# EAGLE library part DS1307 (library Komputronika)
I2C-Bus CLOCK/CALENDAR
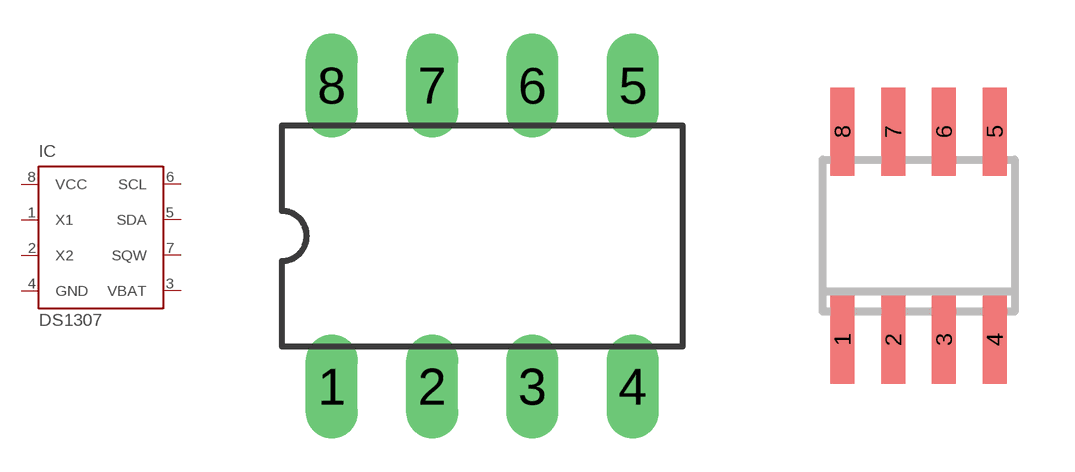
[diagram p9: symbol with the pads of DIL08; footprints DIL08, SOIC8]

Designator prefix IC

## DS1307  [DIL08]
1  X1  in
2  X2  out
3  VBAT  pas
4  GND  pwr
5  SDA
6  SCL  in
7  SQW  oc
8  VCC  pwr

## DS1307Z  [SOIC8]
Pads as for DIL08

## DS1307/PCF8583  [SO8-7_5+SOIC8]
Pads as for DIL08

## Footprint DIL08 (pad centres in mm)
Dual In Line
drill 0.813 long: 1 -3.81,-3.81; 2 -1.27,-3.81; 3 1.27,-3.81; 4 3.81,-3.81; 5 3.81,3.81; 6 1.27,3.81; 7 -1.27,3.81; 8 -3.81,3.81

## Footprint SOIC8 (pad centres in mm)
Small Outline IC
smd 0.6 x 2.2: 1 -1.905,-2.6; 2 -0.635,-2.6; 3 0.635,-2.6; 4 1.905,-2.6; 5 1.905,2.6; 6 0.635,2.6; 7 -0.635,2.6; 8 -1.905,2.6

## Footprint SO8-7_5+SOIC8 (pad centres in mm)
smd 0.8 x 4.345: 1 -1.905,-3.672; 2 -0.635,-3.672; 3 0.635,-3.672; 4 1.905,-3.672; 5 1.905,3.672; 6 0.635,3.672; 7 -0.635,3.672; 8 -1.905,3.672